# Altium schematic symbol library Misc.SchLib: 32 symbols
Pins are listed as number, name and electrical type; pins without a type are passive.

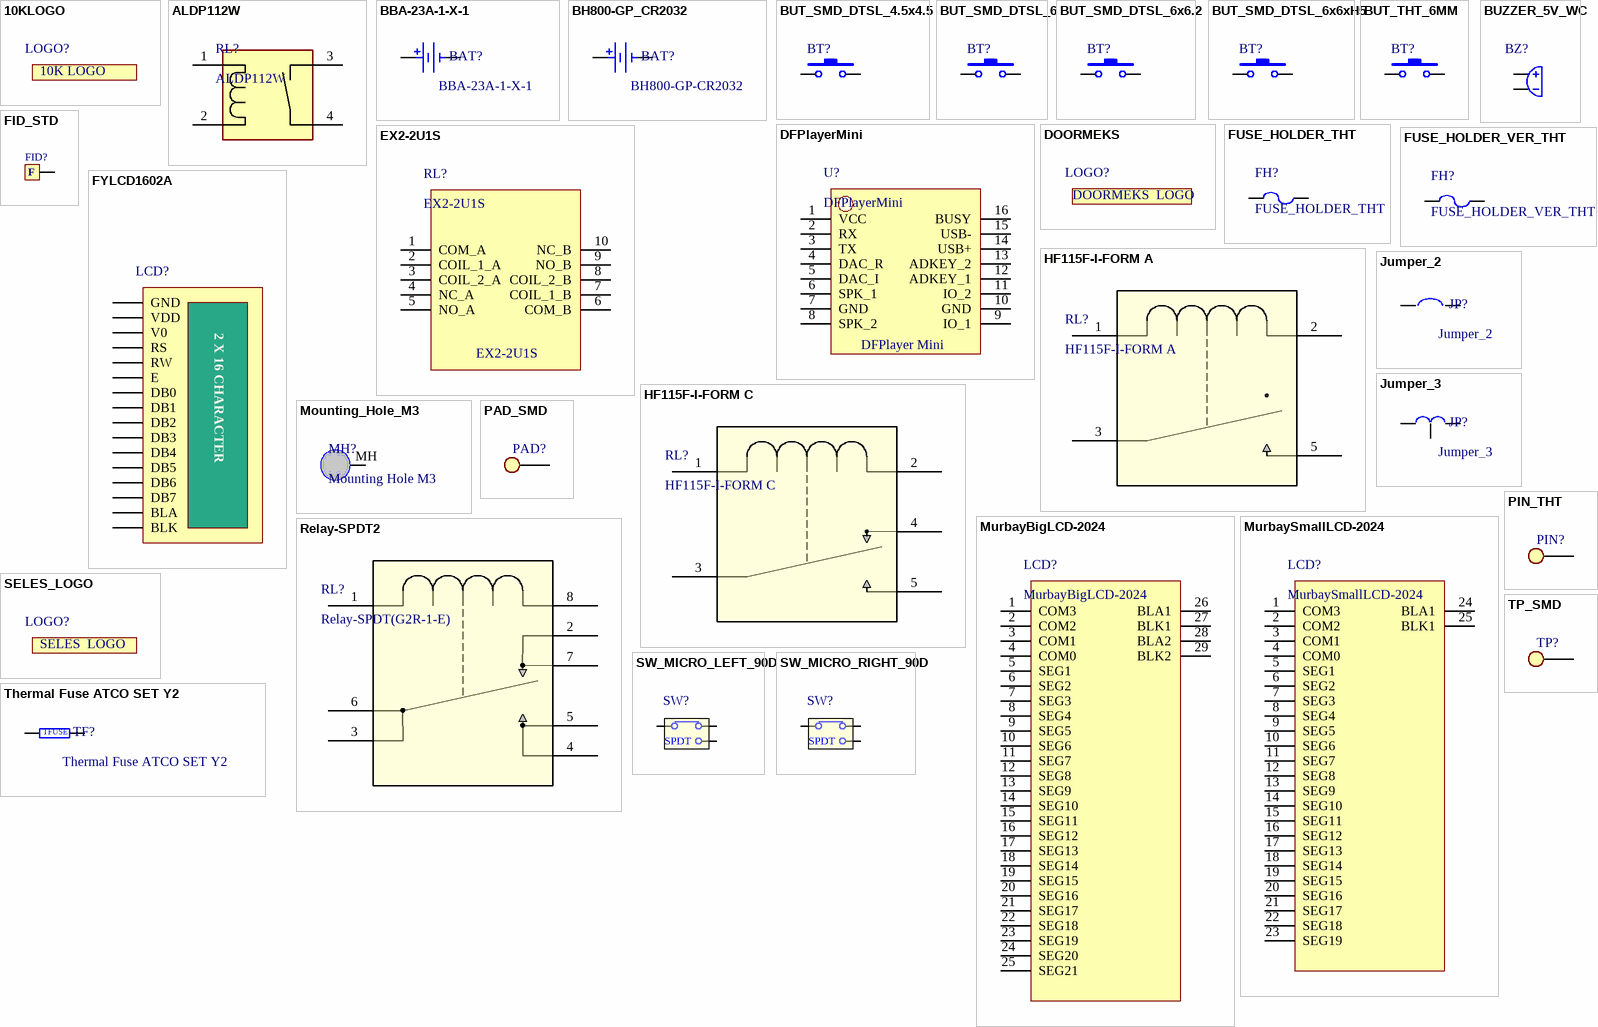
[diagram p0: symbols 10KLOGO to TP_SMD]

## 10KLOGO
designator LOGO?  (value not drawn)
footprint 10K_Logo_1
footprint 10K_Logo_2
text: 10K LOGO

## ALDP112W
designator RL?
footprint ALDP112W
pins: 1, 2, 3, 4

## BBA-23A-1-X-1
designator BAT?
footprint BBA-23A-1-X-1
pins: 1 A, 2 B

## BH800-GP_CR2032
designator BAT?, comment BH800-GP-CR2032
footprint BH800-GP
pins: 1 A, 2 B

## BUT_SMD_DTSL_4.5x4.5
designator BT?
footprint BUT_SMD_DTSL_4.5x4.5
pins: 1, 2

## BUT_SMD_DTSL_6
designator BT?
footprint BUT_SMD_DTSL_6
pins: 1, 2

## BUT_SMD_DTSL_6x6.2
designator BT?
footprint BUT_SMD_DTSL_6x6.2
pins: 1, 2

## BUT_SMD_DTSL_6x6xH5
designator BT?
L-KLS7-TS6604L-5-160-T
footprint BUT_SMD_DTSL_6x6xH5
pins: 1, 2

## BUT_THT_6MM
designator BT?
footprint BUT_DIP_5X6
pins: 1, 2

## BUZZER_5V_WC
designator BZ?
footprint BUZZER_5V_WC
pins: 1, 2

## DFPlayerMini
designator U?
footprint DFPlayer_Mini
pins: 1 VCC (power), 2 RX (power), 3 TX (power), 4 DAC_R (power), 5 DAC_I (power), 6 SPK_1 (power), 7 GND (power), 8 SPK_2 (power), 9 IO_1, 10 GND, 11 IO_2, 12 ADKEY_1, 13 ADKEY_2, 14 USB+, 15 USB-, 16 BUSY
text: DFPlayer Mini

## DOORMEKS
designator LOGO?  (value not drawn)
footprint DOORMEKS_LOGO_1
footprint DOORMEKS_LOGO_2
text: DOORMEKS  LOGO

## EX2-2U1S
designator RL?
footprint EX2-2U1S
pins: 1 COM_A, 2 COIL_1_A, 3 COIL_2_A, 4 NC_A, 5 NO_A, 6 COM_B, 7 COIL_1_B, 8 COIL_2_B, 9 NO_B, 10 NC_B

## FID_STD
designator FID?  (no BOM)
footprint Fiducial_Std
pins: 1
text: F

## FUSE_HOLDER_THT
designator FH?
footprint FUSE_HOLDER_THT
pins: 1, 2

## FUSE_HOLDER_VER_THT
designator FH?
footprint FUSE_HOLDER_VER_THT
pins: 1, 2

## FYLCD1602A
designator LCD?  (value not drawn)
footprint FYLCD1602A
pins: 1 GND, 2 VDD, 3 V0, 4 RS, 5 RW, 6 E, 7 DB0, 8 DB1, 9 DB2, 10 DB3, 11 DB4, 12 DB5, 13 DB6, 14 DB7, 15 BLA, 16 BLK
text: 2 X 16 CHARACTER

## HF115F-I-FORM A
designator RL?
footprint HF115F-I-FORM A
pins: 1, 2, 3, 5

## HF115F-I-FORM C
designator RL?
footprint HF115F-I-FORM C
pins: 1, 2, 3, 4, 5

## Jumper_2
designator JP?
footprint JMP_SMD_2
footprint JMP_DIP_2
footprint JMP_SMD_2_Narrow
pins: 1 A, 2 B

## Jumper_3
designator JP?
footprint JMP_SMD_3
footprint JMP_DIP_3
footprint JMP_SMD_3_NARROW
pins: 1 A, 2 B, 3 C

## Mounting_Hole_M3
designator MH?, comment Mounting Hole M3
footprint Mounting Hole M3 P
footprint Mounting Hole M3 NP
pins: MH

## MurbayBigLCD-2024
designator LCD?
footprint MurbayBigLCD-2024
pins: 1 COM3, 2 COM2, 3 COM1, 4 COM0, 5 SEG1, 6 SEG2, 7 SEG3, 8 SEG4, 9 SEG5, 10 SEG6, 11 SEG7, 12 SEG8, 13 SEG9, 14 SEG10, 15 SEG11, 16 SEG12, 17 SEG13, 18 SEG14, 19 SEG15, 20 SEG16, 21 SEG17, 22 SEG18, 23 SEG19, 24 SEG20, 25 SEG21, 26 BLA1, 27 BLK1, 28 BLA2, 29 BLK2

## MurbaySmallLCD-2024
designator LCD?
footprint MurbaySmallLCD-2024
pins: 1 COM3, 2 COM2, 3 COM1, 4 COM0, 5 SEG1, 6 SEG2, 7 SEG3, 8 SEG4, 9 SEG5, 10 SEG6, 11 SEG7, 12 SEG8, 13 SEG9, 14 SEG10, 15 SEG11, 16 SEG12, 17 SEG13, 18 SEG14, 19 SEG15, 20 SEG16, 21 SEG17, 22 SEG18, 23 SEG19, 24 BLA1, 25 BLK1

## PAD_SMD
designator PAD?  (value not drawn)
footprint PAD_SMD_RR_4X2MM
footprint PAD_SMD_RR_4X3MM
pins: 1 TP

## PIN_THT
designator PIN?  (value not drawn)
footprint PIN_THT_RR_3X3MM_1MM
pins: 1 TP

## Relay-SPDT2
designator RL?, comment Relay-SPDT(G2R-1-E)
Manufacturer_Part_Number: G2R-1-E 12DC; Vendor: OMRON; Built_By: EMA_UL_Team; SourceLibrary: Omron_2012-08-08_Relays_2; Copyright: Copyright (C) 2021 Accelerated Designs. All rights reserved; RefDes: RefDes; Type: DEV
footprint Relay-SPDT2
pins: 1, 2, 3, 4, 5, 6, 7, 8

## SELES_LOGO
designator LOGO?, comment SELES  (value not drawn)
footprint SELES_LOGO_1
footprint SELES_LOGO_2
footprint SELES_LOGO_3
text: SELES  LOGO

## SW_MICRO_LEFT_90D
designator SW?
footprint Micro_Switch_Left_90D_SPDT
pins: 1, 2, 3
text: SPDT

## SW_MICRO_RIGHT_90D
designator SW?
footprint Micro_Switch_Right_90D_SPDT
pins: 1, 2, 3
text: SPDT

## Thermal Fuse ATCO SET Y2
designator TF?
footprint ATCO SET Y2-FORM E
pins: 1 A, 2 B
text: TFUSE

## TP_SMD
designator TP?  (value not drawn)
footprint TP_SMD_1MM
footprint TP_SMD_1.2MM
footprint TP_SMD_1.5MM
footprint TP_SMD_2MM
pins: 1 TP